# Altium footprint library AMEOF3-JZ.PcbLib: 1 footprints
Each footprint in its own frame and in the unit in brackets; x right, y up, seen from the top. Pads: shape width x height; smd on the part's side, far side on the other; paste and mask are expansions set on the pad; w line width, h text height; cw(c..) or ccw(c..) is an arc to the next point about the centre after c.
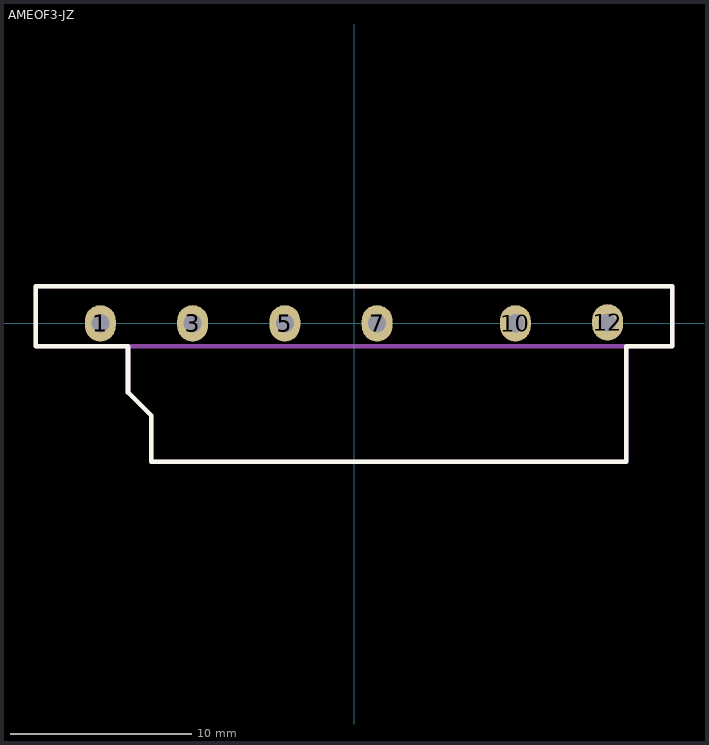
[diagram p0: the footprint, top view; thin cyan lines are the x and y axes]

## AMEOF3-JZ [mm] "AMEOF3-JZ"
height 18.034
pads (6):
  oval 1.7x2 hole 1: 1(-13.97,0) 3(-8.89,0) 5(-3.81,0) 7(1.27,0) 10(8.89,0) 12(13.97,0.05)
Top Overlay:
  lines w0.254: -17.526,-1.27 -17.526,2.032 17.526,2.032 17.526,-1.27 14.986,-1.27 14.986,-7.62 -11.176,-7.62 -11.176,-5.08 -12.446,-3.81 -12.446,-1.27 -17.526,-1.27
Mechanical 1:
  circle w0.254: c13.97,0.05 r0.381
  circle w0.254: c8.89,0 r0.381
  circle w0.254: c1.27,0 r0.381
  circle w0.254: c-3.81,0 r0.381
  circle w0.254: c-8.89,0 r0.381
  circle w0.254: c-13.97,0 r0.381
  lines w0.254: -12.446,-2.54 -12.446,-3.81 ; -12.446,-1.269 -12.446,-3.81 ; 14.986,-2.54 14.986,-7.62 ; -12.446,-3.81 -11.176,-5.08 ; -12.446,-3.81 -11.176,-5.08 ; -11.176,-7.62 14.986,-7.62 ; -11.176,-7.62 -11.176,-5.08 ; -11.176,-7.62 -11.176,-5.08 ; -11.176,-7.62 14.986,-7.62 ; 14.986,-7.62 14.986,-1.271 ; 14.985,-1.27 14.986,-1.271 ; -17.526,-1.271 -17.526,2.032 17.526,2.032 17.526,-1.269 -17.525,-1.271
3D body: height 17.78, standoff 2.03, extent -12.446,-7.62 14.987,-1.396
3D body: height 18.03, standoff 0, extent -17.525,-1.27 17.525,2.031
3D body: height 2.54, standoff -2.03, extent 13.59,-0.33 14.35,0.43
3D body: height 2.54, standoff -2.03, extent -4.19,-0.38 -3.43,0.38
3D body: height 2.54, standoff -2.03, extent 8.51,-0.38 9.27,0.38
3D body: height 2.54, standoff -2.03, extent 0.89,-0.38 1.65,0.38
3D body: height 2.54, standoff -2.03, extent -9.27,-0.38 -8.51,0.38
3D body: height 2.54, standoff -2.03, extent -14.35,-0.38 -13.59,0.38